# Altium footprint library 蜂鸣器.PcbLib: 5 footprints
Each footprint in its own frame and in the unit in brackets; x right, y up, seen from the top. Pads: shape width x height; smd on the part's side, far side on the other; paste and mask are expansions set on the pad; w line width, h text height; cw(c..) or ccw(c..) is an arc to the next point about the centre after c.
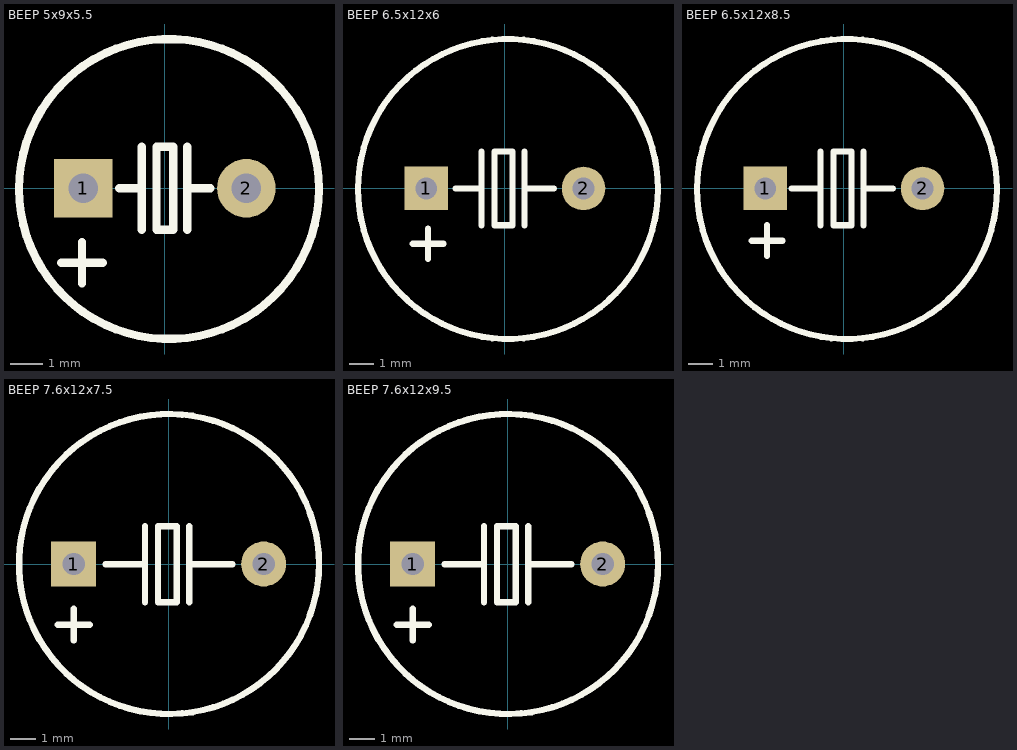
[diagram p0: the footprints below, top view; thin cyan lines are the x and y axes]

## BEEP 5x9x5.5 [mm]
pads (2):
  rect 1.8x1.8 hole 0.9: 1(-2.5,0)
  round 1.8 hole 0.9: 2(2.5,0)
Top Overlay:
  circle w0.254: c0.127,-0.023 r4.6
  lines w0.254: -3.175,-2.286 -1.905,-2.286 ; -2.54,-2.921 -2.54,-1.651 ; -1.397,0 -0.709,0 ; -0.709,-1.27 -0.709,1.27 ; 0.685,-1.27 0.685,1.27 ; 0.812,0 1.397,0 ; -0.254,-1.27 0.254,-1.27 0.254,1.27 -0.254,1.27 -0.254,-1.27
3D body "BEEP 5x9x5.5.STEP": height 5.45, standoff -3.55, extent -4.46,-4.445 4.54,4.555

## BEEP 6.5x12x6 [mm]
pads (2):
  rect 1.8x1.8 hole 0.9: 1(-3.25,0)
  round 1.8 hole 0.9: 2(3.25,0)
Top Overlay:
  circle w0.254: c0.127,-0.023 r6.2
  lines w0.254: -3.81,-2.286 -2.54,-2.286 ; -3.175,-2.921 -3.175,-1.651 ; -2.032,0 -0.963,0 ; -0.963,-1.524 -0.963,1.524 ; 0.812,-1.524 0.812,1.524 ; 0.812,0 2.032,0 ; -0.438,-1.524 -0.438,1.524 0.312,1.524 0.312,-1.524 -0.438,-1.524
3D body "BEEP 6.5x12x6.STEP": height 6.05, standoff -3.25, extent -5.948,-5.969 6.052,6.031

## BEEP 6.5x12x8.5 [mm]
pads (2):
  rect 1.8x1.8 hole 0.9: 1(-3.25,0)
  round 1.8 hole 0.9: 2(3.25,0)
Top Overlay:
  circle w0.254: c0.127,-0.023 r6.2
  lines w0.254: -3.81,-2.159 -2.54,-2.159 ; -3.175,-2.794 -3.175,-1.524 ; -2.159,0 -0.963,0 ; -0.963,-1.524 -0.963,1.524 ; 0.812,-1.524 0.812,1.524 ; 0.812,0 2.032,0 ; -0.438,-1.524 -0.438,1.524 0.312,1.524 0.312,-1.524 -0.438,-1.524
3D body "BEEP 6.5x12x8.5.STEP": height 8.55, standoff -3.25, extent -6.044,-6 5.956,6

## BEEP 7.6x12x7.5 [mm]
pads (2):
  rect 1.8x1.8 hole 0.9: 1(-3.8,0)
  round 1.8 hole 0.9: 2(3.8,0)
Top Overlay:
  circle w0.254: c0.011,0 r6.001
  lines w0.254: -4.434,-2.424 -3.164,-2.424 ; -3.799,-3.059 -3.799,-1.789 ; -2.529,-0.011 -0.952,-0.011 ; -0.952,-1.535 -0.952,1.513 ; 0.823,-1.535 0.823,1.513 ; 0.823,-0.011 2.551,-0.011 ; -0.427,-1.535 -0.427,1.513 0.323,1.513 0.323,-1.535 -0.427,-1.535
3D body "BEEP 7.6x12x7.5.STEP": height 7.55, standoff -3.25, extent -5.99,-5.969 6.01,6.031

## BEEP 7.6x12x9.5 [mm]
pads (2):
  rect 1.8x1.8 hole 0.9: 1(-3.8,0)
  round 1.8 hole 0.9: 2(3.8,0)
Top Overlay:
  circle w0.254: c0.011,0 r6.001
  lines w0.254: -4.434,-2.424 -3.164,-2.424 ; -3.799,-3.059 -3.799,-1.789 ; -2.529,-0.011 -0.952,-0.011 ; -0.952,-1.535 -0.952,1.513 ; 0.823,-1.535 0.823,1.513 ; 0.823,-0.011 2.551,-0.011 ; -0.427,-1.535 0.323,-1.535 0.323,1.513 -0.427,1.513 -0.427,-1.535
3D body "BEEP 7.6x12x9.5.STEP": height 9.55, standoff -3.25, extent -5.99,-5.969 6.01,6.031